# Altium schematic symbol library SCH - INTERFACE - AD ADV7392_3.SCHLIB: 1 symbol
Pins are listed as number, name and electrical type; pins without a type are passive.

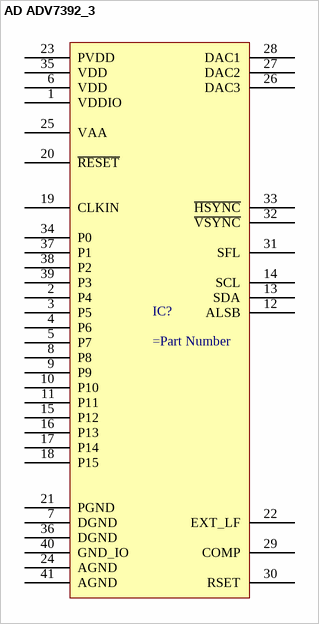
[diagram p0: symbol AD ADV7392_3]

## AD ADV7392_3
designator IC?
pins: 1 VDDIO, 2 P4, 3 P5, 4 P6, 5 P7, 6 VDD, 7 DGND, 8 P8, 9 P9, 10 P10, 11 P11, 12 ALSB, 13 SDA, 14 SCL, 15 P12, 16 P13, 17 P14, 18 P15, 19 CLKIN, 20 ~{RESET}, 21 PGND, 22 EXT_LF, 23 PVDD, 24 AGND, 25 VAA, 26 DAC3, 27 DAC2, 28 DAC1, 29 COMP, 30 RSET, 31 SFL, 32 ~{VSYNC}, 33 ~{HSYNC}, 34 P0, 35 VDD, 36 DGND, 37 P1, 38 P2, 39 P3, 40 GND_IO, 41 AGND